# Altium schematic symbol library 贴片.SchLib: 35 symbols
Pins are listed as number, name and electrical type; pins without a type are passive.

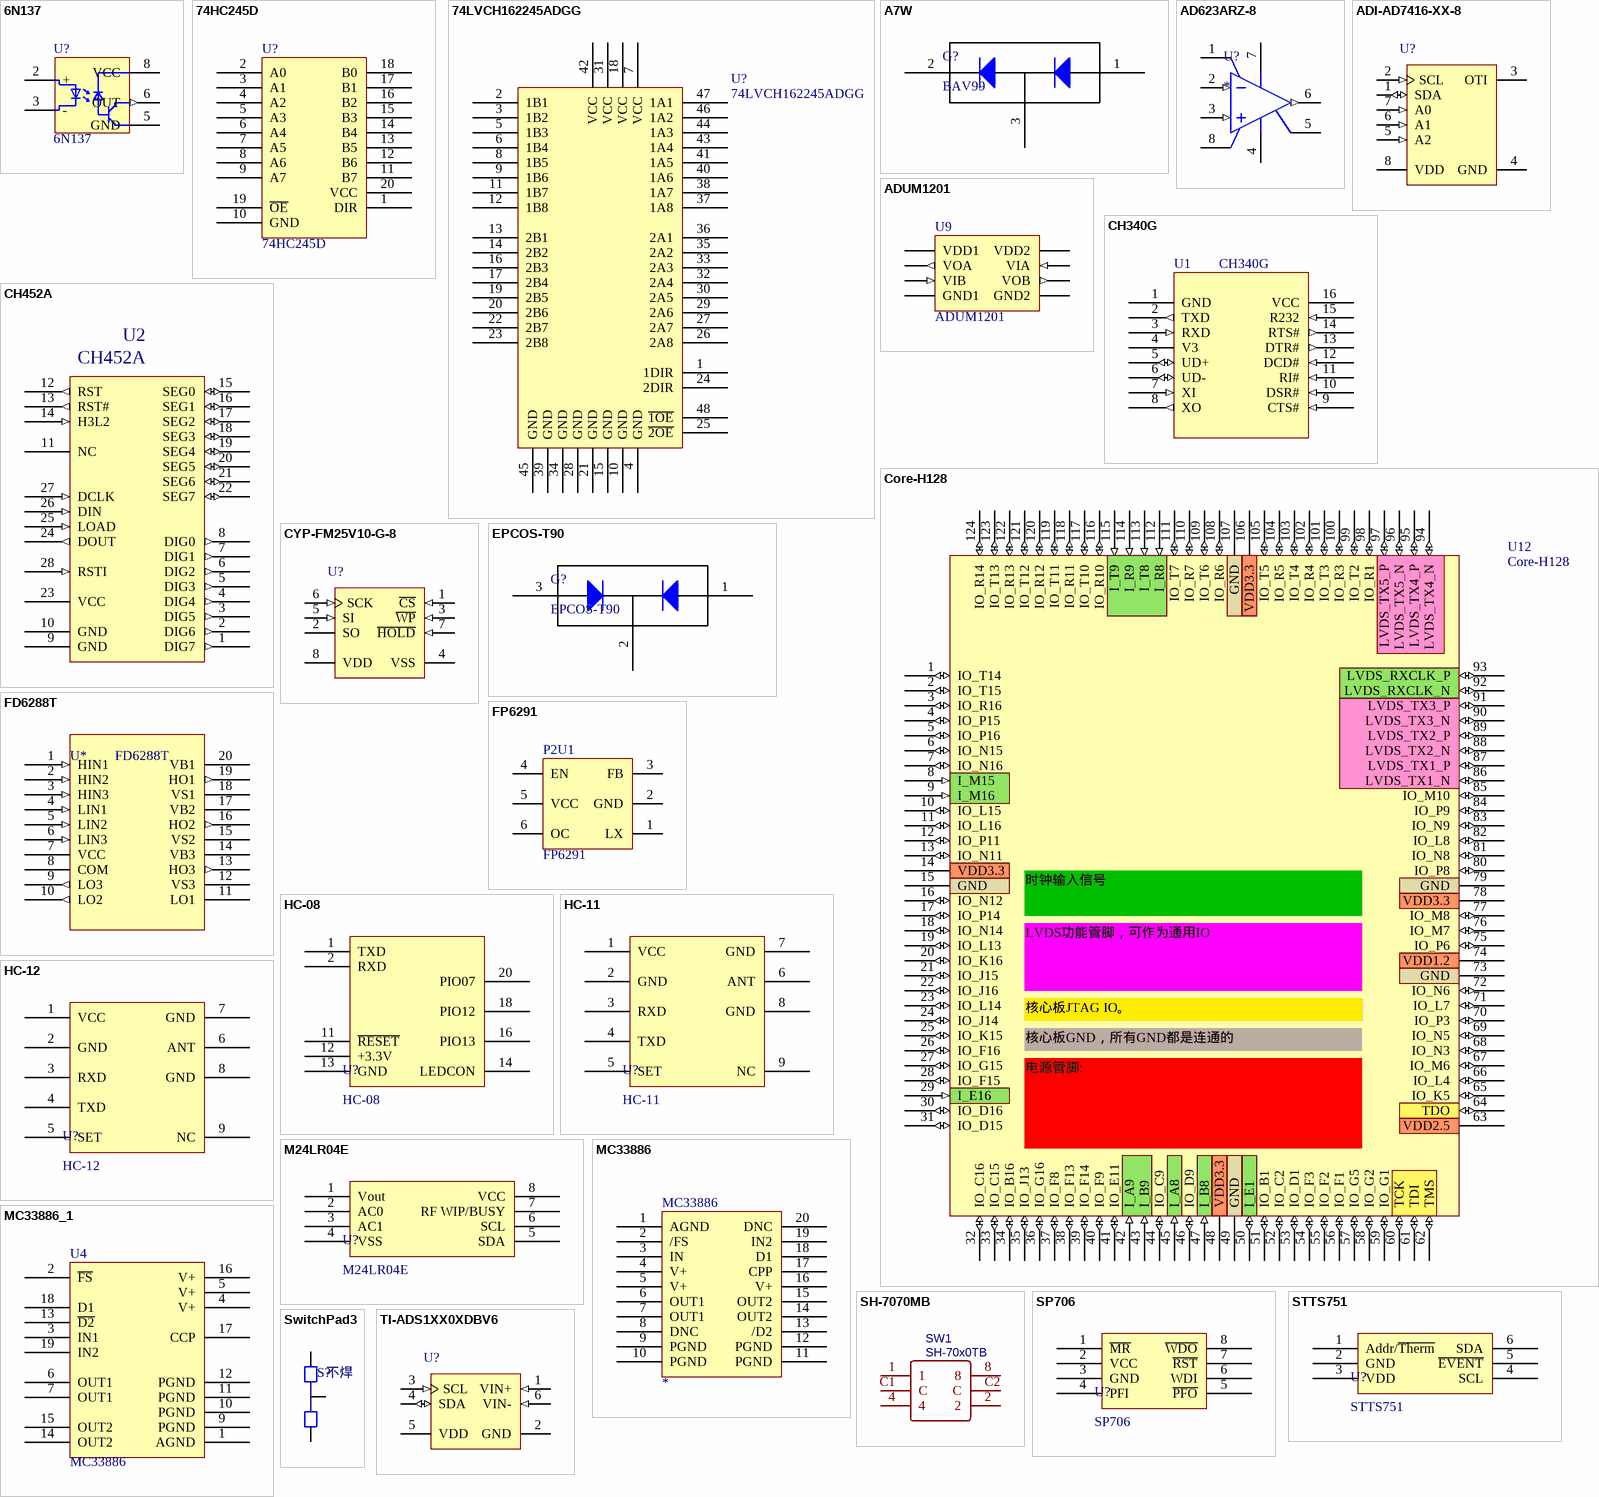
[diagram p0: symbols 6N137 to TI-ADS1XX0XDBV6]

## 6N137
designator U?
footprint DIP8
pins: 2 +, 3 -, 5 GND (power), 6 OUT (out), 8 VCC (power)
2 alternate drawings of the same symbol

## 74HC245D
designator U?
footprint SOP20
pins: 1 DIR, 2 A0, 3 A1, 4 A2, 5 A3, 6 A4, 7 A5, 8 A6, 9 A7, 10 GND, 11 B7, 12 B6, 13 B5, 14 B4, 15 B3, 16 B2, 17 B1, 18 B0, 19 ~{OE}, 20 VCC

## 74LVCH162245ADGG
designator U?
footprint TSSOP48
pins: 1 1DIR, 2 1B1, 3 1B2, 4 GND, 5 1B3, 6 1B4, 7 VCC, 8 1B5, 9 1B6, 10 GND, 11 1B7, 12 1B8, 13 2B1, 14 2B2, 15 GND, 16 2B3, 17 2B4, 18 VCC, 19 2B5, 20 2B6, 21 GND, 22 2B7, 23 2B8, 24 2DIR, 25 ~{2OE}, 26 2A8, 27 2A7, 28 GND, 29 2A6, 30 2A5, 31 VCC, 32 2A4, 33 2A3, 34 GND, 35 2A2, 36 2A1, 37 1A8, 38 1A7, 39 GND, 40 1A6, 41 1A5, 42 VCC, 43 1A4, 44 1A3, 45 GND, 46 1A2, 47 1A1, 48 ~{1OE}

## A7W
designator G?, comment BAV99
pins: 1, 2, 3

## AD623ARZ-8
designator U?
footprint AD623ARZ-8_M (SOIC, 8-Leads, Body 5x4mm, Pitch 1.27mm, IPC Low Density)
footprint AD623ARZ-8_L (SOIC, 8-Leads, Body 5x4mm, Pitch 1.27mm, IPC High Density)
footprint AD623ARZ-8_N (SOIC, 8-Leads, Body 5x4mm, Pitch 1.27mm, IPC Medium Density)
pins: 1 -RG, 2 -IN (in), 3 +IN (in), 4 -VS (power), 5 REF (power), 6 OUTPUT (out), 7 +VS (power), 8 +RG

## ADI-AD7416-XX-8
designator U?
footprint ADI-R-8_M (SOIC, 8-Leads, Body 4.9x3.9mm, Pitch 1.27mm, IPC Low Density)
pins: 1 SDA (io) "Digital I/O. Serial bus bidirectional data. Push-pull output.", 2 SCL (in) "Digital Input. Serial bus clock.", 3 OTI (oc) "This pin is a logic output. The OTI is set if the result of a conversion on Channel 0 (temperature sensor) is greater than an 8-bit word in the TOTI setpoint register. The signal is reset at the end of a serial read (See Datasheet)", 4 GND (power) "Ground reference for track-and-hold, comparator and capacitor DAC, and digital circuitry.", 5 A2 (in) "Digital Input. This is the highest programmable bit of the serial bus address.", 6 A1 (in) "Digital Input. This is the middle programmable bit of the serial bus address.", 7 A0 (in) "Digital Input. This is the lowest programmable bit of the serial bus address.", 8 VDD (power) "Positive Supply Voltage, 2.7 V to 5.5 V."

## ADUM1201
designator U9
电磁隔离芯片
footprint SOIC-8
pins: 1 VDD1, 2 VOA (out), 3 VIB (in), 4 GND1, 5 GND2, 6 VOB (out), 7 VIA (in), 8 VDD2

## CH340G
designator U1
USB to TTL Serial / UART
footprint SOP16
pins: 1 GND (power), 2 TXD (out), 3 RXD (in), 4 V3 (power), 5 UD+ (io), 6 UD- (io), 7 XI (in), 8 XO (out), 9 CTS# (in), 10 DSR# (in), 11 RI# (in), 12 DCD# (in), 13 DTR# (out), 14 RTS# (out), 15 R232 (in), 16 VCC (power)

## CH452A
designator U2
footprint SOP28_M (28-Leads, Body 18.1x7.6mm, Pitch 1.27mm, IPC Low Density)
footprint SOP28_L (28-Leads, Body 18.1x7.6mm, Pitch 1.27mm, IPC High Density)
footprint SOP28_N (28-Leads, Body 18.1x7.6mm, Pitch 1.27mm, IPC Medium Density)
pins: 1 DIG7 (out), 2 DIG6 (out), 3 DIG5 (out), 4 DIG4 (out), 5 DIG3 (out), 6 DIG2 (out), 7 DIG1 (out), 8 DIG0 (out), 9 GND (power), 10 GND (power), 11 NC, 12 RST (out), 13 RST# (out), 14 H3L2 (in), 15 SEG0 (io), 16 SEG1 (io), 17 SEG2 (io), 18 SEG3 (io), 19 SEG4 (io), 20 SEG5 (io), 21 SEG6 (io), 22 SEG7 (io), 23 VCC (power), 24 DOUT (out), 25 LOAD (in), 26 DIN (in), 27 DCLK (in), 28 RSTI (in)

## Core-H128
designator U12
footprint Core-124pin
pins: 1 IO_T14 (io), 2 IO_T15 (io), 3 IO_R16 (io), 4 IO_P15 (io), 5 IO_P16 (io), 6 IO_N15 (io), 7 IO_N16 (io), 8 I_M15 (in), 9 I_M16 (in), 10 IO_L15 (io), 11 IO_L16 (io), 12 IO_P11 (io), 13 IO_N11 (io), 14 VDD3.3 (power), 15 GND (power), 16 IO_N12 (io), 17 IO_P14 (io), 18 IO_N14 (io), 19 IO_L13 (io), 20 IO_K16 (io), 21 IO_J15 (io), 22 IO_J16 (io), 23 IO_L14 (io), 24 IO_J14 (io), 25 IO_K15 (io), 26 IO_F16 (io), 27 IO_G15 (io), 28 IO_F15 (io), 29 I_E16 (in), 30 IO_D16 (io), 31 IO_D15 (io), 32 IO_C16 (io), 33 IO_C15 (io), 34 IO_B16 (io), 35 IO_J13 (io), 36 IO_G16 (io), 37 IO_F8 (io), 38 IO_F13 (io), 39 IO_F14 (io), 40 IO_F9 (io), 41 IO_E11 (io), 42 I_A9 (in), 43 I_B9 (in), 44 IO_C9 (io), 45 I_A8 (in), 46 IO_D9 (io), 47 I_B8 (in), 48 VDD3.3 (power), 49 GND (power), 50 I_E1 (io), 51 IO_B1 (io), 52 IO_C2 (io), 53 IO_D1 (io), 54 IO_F3 (io), 55 IO_F2 (io), 56 IO_F1 (io), 57 IO_G5 (io), 58 IO_G2 (io), 59 IO_G1 (io), 60 TCK (io), 61 TDI (io), 62 TMS (io), 63 VDD2.5 (power), 64 TDO (io), 65 IO_K5 (io), 66 IO_L4 (io), 67 IO_M6 (io), 68 IO_N3 (io), 69 IO_N5 (io), 70 IO_P3 (io), 71 IO_L7 (io), 72 IO_N6 (io), 73 GND (power), 74 VDD1.2 (power), 75 IO_P6 (io), 76 IO_M7 (io), 77 IO_M8 (io), 78 VDD3.3 (power), 79 GND (power), 80 IO_P8 (io), 81 IO_N8 (io), 82 IO_L8 (io), 83 IO_N9 (io), 84 IO_P9 (io), 85 IO_M10 (io), 86 LVDS_TX1_N (io), 87 LVDS_TX1_P (io), 88 LVDS_TX2_N (io), 89 LVDS_TX2_P (io), 90 LVDS_TX3_N (io), 91 LVDS_TX3_P (io), 92 LVDS_RXCLK_N (io), 93 LVDS_RXCLK_P (io), 94 LVDS_TX4_N (io), 95 LVDS_TX4_P (io), 96 LVDS_TX5_N (io), 97 LVDS_TX5_P (io), 98 IO_R1 (io), 99 IO_T2 (io), 100 IO_R3 (io), 101 IO_T3 (io), 102 IO_R4 (io), 103 IO_T4 (io), 104 IO_R5 (io), 105 IO_T5 (io), 106 VDD3.3 (power), 107 GND (power), 108 IO_R6 (io), 109 IO_T6 (io), 110 IO_R7 (io), 111 IO_T7 (io), 112 I_R8 (in), 113 I_T8 (in), 114 I_R9 (in), 115 I_T9 (in), 116 IO_R10 (io), 117 IO_T10 (io), 118 IO_R11 (io), 119 IO_T11 (io), 120 IO_R12 (io), 121 IO_T12 (io), 122 IO_R13 (io), 123 IO_T13 (io), 124 IO_R14 (io)
text: 时钟输入信号; LVDS功能管脚，可作为通用IO; 核心板JTAG IO。; 核心板GND，所有GND都是连通的; 电源管脚:

## CYP-FM25V10-G-8
designator U?
pins: 1 ~{CS} (in) "Chip Select. This active LOW input activates the device. When HIGH, the device enters low-power standby mode, ignores other inputs, and the output is tristated. When LOW, the device internally activates the SCK signal. A (See Datasheet)", 2 SO (hiz) "Serial Output.This is the data output pin. It is driven during a read and remains tristated at all other times including when H\O\L\D\ is LOW. Data transitions are driven on the falling edge of the serial clock.", 3 ~{WP} (in) "Write Protect.This Active LOW pin prevents write operation to the Status Register when WPEN is set to ‘1’. This is critical because other write protection features are controlled through the Status Register.", 4 VSS (power) "Ground for the device. Must be connected to the ground of the system.", 5 SI (in) "Serial Input. All data is input to the device on this pin. The pin is sampled on the rising edge of SCK and is ignored at other times. It should always be driven to a valid logic level to meet IDD specifications", 6 SCK (in) "Serial Clock. All I/O activity is synchronized to the serial clock. Inputs are latched on the rising edge and outputs occur on the falling edge. Because the device is synchronous, the clock frequency may be any value between (See Datasheet)", 7 ~{HOLD} (in) "H\O\L\D\ Pin.The H\O\L\D\ pin is used when the host CPU must interrupt a memory operation for another task. When H\O\L\D\ is LOW, the current operation is suspended. The device ignores any transition on SCK or CS. All (See Datasheet)", 8 VDD (power) "Power supply input to the device."

## EPCOS-T90
designator G?
footprint EPCOS-T90
pins: 1, 2, 3

## FD6288T
designator U*
USB to TTL Serial / UART
footprint TSSOP20_M (TSOP, 20-Leads, Body 6.5x4.4mm, Pitch 0.65mm, IPC Low Density)
pins: 1 HIN1 (in), 2 HIN2 (in), 3 HIN3 (in), 4 LIN1 (in), 5 LIN2 (in), 6 LIN3 (in), 7 VCC (power), 8 COM, 9 LO3 (out), 10 LO2 (out), 11 LO1 (oc), 12 VS3, 13 HO3 (out), 14 VB3, 15 VS2, 16 HO2 (out), 17 VB2, 18 VS1, 19 HO1 (out), 20 VB1

## FP6291
designator P2U1
升压芯片
footprint SOT26A-6L (SOT23, 6-Leads, Body 2.9x1.7mm, Pitch 0.95mm, Lead Span 2.8mm, IPC High Density)
footprint SOT23-6 (SOT-23/SC-74A; 5 Leads; Body 3.1 x 3 mm, inc. leads (LxW max))
pins: 1 LX, 2 GND, 3 FB, 4 EN, 5 VCC, 6 OC

## HC-08
designator U?
汇承HC-08 蓝牙模块4.0BLE远距离51单片机通信串口无线传输模块
footprint HC-08V20/22/41
pins: 1 TXD, 2 RXD, 11 ~{RESET}, 12 +3.3V, 13 GND, 14 LEDCON, 16 PIO13, 18 PIO12, 20 PIO07

## HC-11
designator U?
无线模块433m近距离串口数据通信模块/低功耗发射接收带天线HC-11
footprint HC-11/12_SMT
pins: 1 VCC, 2 GND, 3 RXD, 4 TXD, 5 SET, 6 ANT, 7 GND, 8 GND, 9 NC

## HC-12
designator U?
汇承HC-12 433M无线收发模块 远距离数据串口通讯SI4463无线模块
footprint HC-11/12_SMT
pins: 1 VCC, 2 GND, 3 RXD, 4 TXD, 5 SET, 6 ANT, 7 GND, 8 GND, 9 NC

## M24LR04E
designator U?
footprint SO8_L (Footprint not found)
footprint SO8_M (Footprint not found)
footprint SO8_N (Footprint not found)
pins: 1 Vout, 2 AC0, 3 AC1, 4 VSS, 5 SDA, 6 SCL, 7 RF WIP/BUSY, 8 VCC

## MC33886
designator ?
footprint MC33886
pins: 1 AGND, 2 /FS, 3 IN, 4 V+, 5 V+, 6 OUT1, 7 OUT1, 8 DNC, 9 PGND, 10 PGND, 11 PGND, 12 PGND, 13 /D2, 14 OUT2, 15 OUT2, 16 V+, 17 CPP, 18 D1, 19 IN2, 20 DNC

## MC33886_1
designator U4, comment MC33886
footprint HSOP20
footprint MC33886
pins: 1 AGND, 2 ~{FS}, 3 IN1, 4 V+, 5 V+, 6 OUT1, 7 OUT1, 8 DNC hidden to DNC, 9 PGND, 10 PGND, 11 PGND, 12 PGND, 13 ~{D2}, 14 OUT2, 15 OUT2, 16 V+, 17 CCP, 18 D1, 19 IN2, 20 DNC hidden to DNC

## SH-7070MB
designator SW1, comment SH-70x0TB
BOM_Manufacturer: Nidec Copal Elec; BOM_Manufacturer Part: SH-7070MB; Contributor: LCSC; BOM_Supplier: LCSC; BOM_Supplier Part: C132914; spicePre: S
footprint SH-7070MB
footprint SH-7030MB
pins: 1, 2, 4, 8, C1 C, C2 C

## SP706
designator U?
footprint SO8_L (Footprint not found)
footprint SO8_M (Footprint not found)
footprint SO8_N (Footprint not found)
pins: 1 ~{MR}, 2 VCC, 3 GND, 4 PFI, 5 ~{PFO}, 6 WDI, 7 ~{RST}, 8 ~{WDO}

## STTS751
designator U?
footprint SOT23-6_L (Footprint not found)
footprint SOT23-6_M (Footprint not found)
footprint SOT23-6_N (Footprint not found)
pins: 1 Addr/~{Therm}, 2 GND, 3 VDD, 4 SCL, 5 ~{EVENT}, 6 SDA

## SwitchPad3
designator S?  value 不焊  (hidden comment: SwitchPad3)
Published: 8-Jun-2000; LatestRevisionDate: 17-Jul-2002; LatestRevisionNote: Re-released for DXP Platform.; Publisher: Altium Limited
footprint 0603
simulation model RESISTOR (Resistor)
signal-integrity model Res
footprint SwitchPad3 (模式选择贴片)
pins: 1, 2, 3

## TI-ADS1XX0XDBV6
designator U?
footprint TI-DBV6_L (SOT23, 6-Leads, Body 2.9x1.6mm, Pitch 0.95mm, IPC High Density)
footprint TI-DBV6_M (SOT23, 6-Leads, Body 2.9x1.6mm, Pitch 0.95mm, IPC Low Density)
footprint TI-DBV6_N (SOT23, 6-Leads, Body 2.9x1.6mm, Pitch 0.95mm, IPC Medium Density)
pins: 1 VIN+ (in), 2 GND (power), 3 SCL (in), 4 SDA (io), 5 VDD (power), 6 VIN- (in)

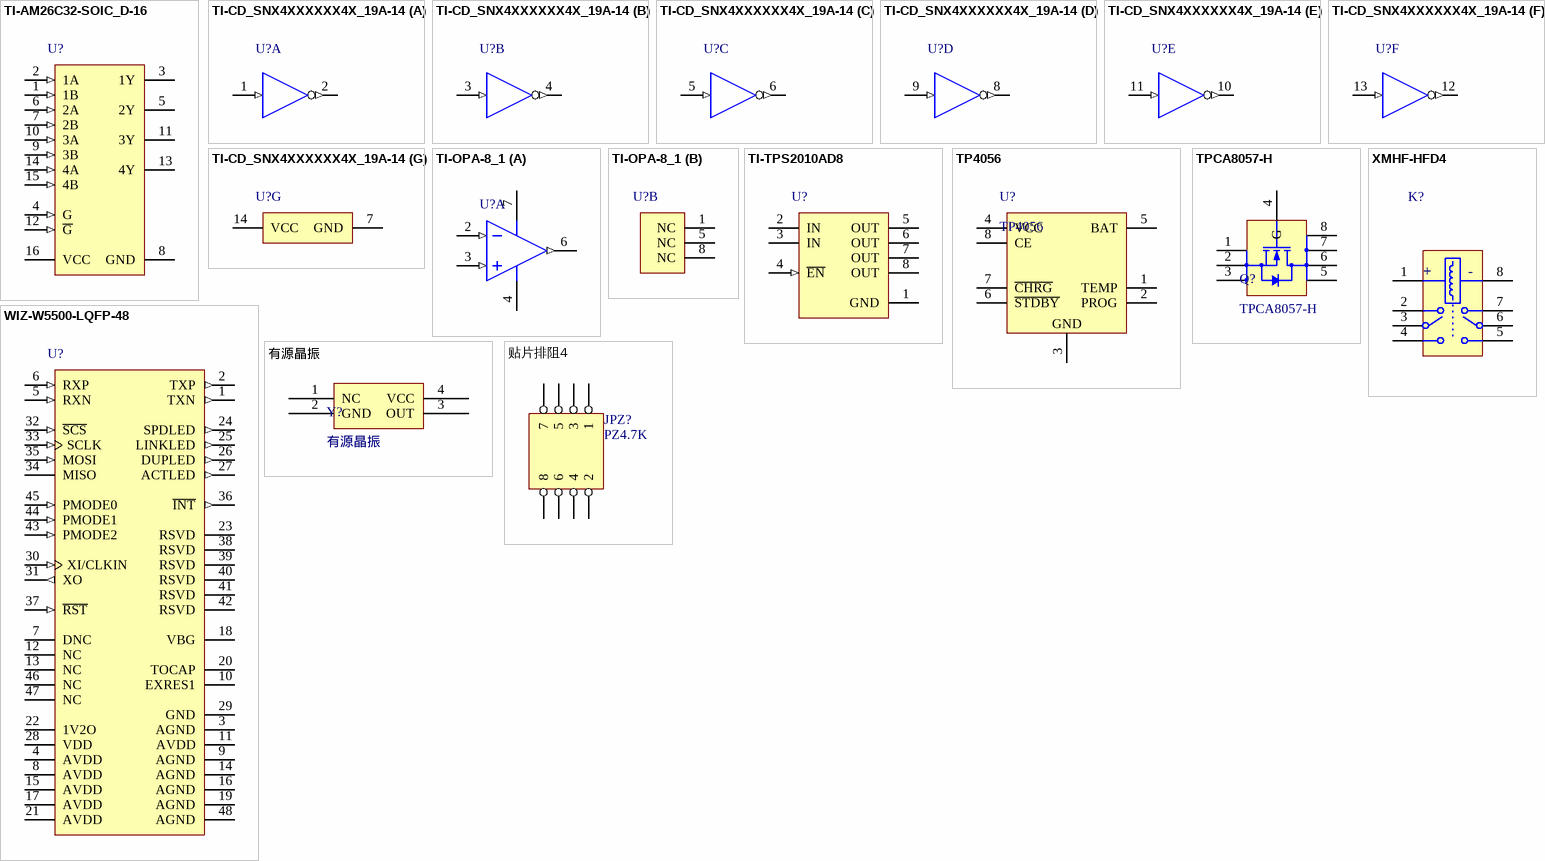
[diagram p1: symbols TI-AM26C32-SOIC_D-16 to 贴片排阻4]

## TI-AM26C32-SOIC_D-16
designator U?
footprint D16_M (SOIC, 16-Leads, Body 9.9x3.9mm, Pitch 1.27mm, IPC Low Density)
footprint D16_N (SOIC, 16-Leads, Body 9.9x3.9mm, Pitch 1.27mm, IPC Medium Density)
footprint D16_L (SOIC, 16-Leads, Body 9.9x3.9mm, Pitch 1.27mm, IPC High Density)
pins: 1 1B (in), 2 1A (in), 3 1Y (hiz), 4 G (in), 5 2Y (hiz), 6 2A (in), 7 2B (in), 8 GND (power), 9 3B (in), 10 3A (in), 11 3Y (hiz), 12 ~{G} (in), 13 4Y (hiz), 14 4A (in), 15 4B (in), 16 VCC (power)

## TI-CD_SNX4XXXXXX4X_19A-14
designator U?
footprint D0014A_M (SOIC, 14-Leads, Body 8.75x4mm, Pitch 1.27mm, IPC Low Density)
footprint D0008A_L (SOIC, 8-Leads, Body 5x4mm, Pitch 1.27mm, IPC High Density)
footprint D0008A_N (SOIC, 8-Leads, Body 5x4mm, Pitch 1.27mm, IPC Medium Density)
part A pins: 1 1A (in) "Input 1A", 2 ~{1Y} (out) "Output 1Y"
part B pins: 3 2A (in) "Input 2A", 4 ~{2Y} (out) "Output 2Y"
part C pins: 5 3A (in) "Input 3A", 6 ~{3Y} (out) "Output 3Y"
part D pins: 8 ~{4Y} (out) "Output 4Y", 9 4A (in) "Input 4A"
part E pins: 10 ~{5Y} (out) "Output 5Y", 11 5A (in) "Input 5A"
part F pins: 12 ~{6Y} (out) "Output 6Y", 13 6A (in) "Input 6A"
part G pins: 7 GND (power) "Ground Pin", 14 VCC (power) "Power Pin"

## TI-OPA-8_1
designator U?
footprint D0008A_L (SOIC, 8-Leads, Body 5x4mm, Pitch 1.27mm, IPC High Density)
footprint D0008A_M (SOIC, 8-Leads, Body 5x4mm, Pitch 1.27mm, IPC Low Density)
footprint D0008A_N (SOIC, 8-Leads, Body 5x4mm, Pitch 1.27mm, IPC Medium Density)
part A pins: 2 IN- (in), 3 IN+ (in), 4 V- (power), 6 OUT (out), 7 V+ (power)
part B pins: 1 NC, 5 NC, 8 NC

## TI-TPS2010AD8
designator U?
footprint D8_M (SOIC, 8-Leads, Body 4.9x3.9mm, Pitch 1.27mm, IPC Low Density)
pins: 1 GND (power) "Ground", 2 IN (power) "Input voltage", 3 IN (power) "Input voltage", 4 ~{EN} (in) "Enable input. Logic low turns on power switch.", 5 OUT (power) "Power-switch output", 6 OUT (power) "Power-switch output", 7 OUT (power) "Power-switch output", 8 OUT (power) "Power-switch output"

## TP4056
designator U?
锂电池充电管理
footprint NSO8_TP4056 (SOIC-max660)
pins: 1 TEMP, 2 PROG, 3 GND, 4 VCC, 5 BAT, 6 ~{STDBY}, 7 ~{CHRG}, 8 CE

## TPCA8057-H
designator Q?
MOSFETsSilicon N-Channel MOS (U-MOS��-H)
footprint TPCA8057-H (SOIC, 8-Leads, Body 5x5mm, Pitch 1.27mm, IPC Low Density)
pins: 1 S, 2 S, 3 S, 4 G, 5 D (power), 6 D (power), 7 D (power), 8 D (power)

## WIZ-W5500-LQFP-48
designator U?
footprint WIZ-W5500-LQFP-48_M (LQFP, 48-Leads, Body 7.00x7.00mm, Pitch 0.50mm, IPC Low Density)
footprint WIZ-W5500-LQFP-48_L (LQFP, 48-Leads, Body 7.00x7.00mm, Pitch 0.50mm, IPC High Density)
footprint WIZ-W5500-LQFP-48_N (LQFP, 48-Leads, Body 7.00x7.00mm, Pitch 0.50mm, IPC Medium Density)
pins: 1 TXN (out) "TXP/TXN Signal Pair", 2 TXP (out) "TXP/TXN Signal Pair", 3 AGND (power) "Analog ground", 4 AVDD (power) "Analog 3.3V power", 5 RXN (in) "RXP/RXN Signal Pair", 6 RXP (in) "RXP/RXN Signal Pair", 7 DNC "Do Not Connect Pin", 8 AVDD (power) "Analog 3.3V power", 9 AGND (power) "Analog ground", 10 EXRES1 "External Reference Resistor", 11 AVDD (power) "Analog 3.3V power", 12 NC "Not connected", 13 NC "Not connected", 14 AGND (power) "Analog ground", 15 AVDD (power) "Analog 3.3V power", 16 AGND (power) "Analog ground", 17 AVDD (power) "Analog 3.3V power", 18 VBG "Band Gap Output Voltage, This pin will be measured as 1.2V at 25 degC. It must be left floating.", 19 AGND (power) "Analog ground", 20 TOCAP "External Reference Capacitor, This pin must be connected to a 4.7uF capacitor. The trace length to capacitor should be short to stabilize the internal signals.", 21 AVDD (power) "Analog 3.3V power", 22 1V2O (power) "1.2V Regulator output voltage", 23 RSVD "It must be tied to GND.", 24 SPDLED (out) "Speed LED, This shows the Speed status of the connected link.", 25 LINKLED (out) "Link LED, This shows the Link status.", 26 DUPLED (out) "Duplex LED, This shows the Duplex status for the connected link.", 27 ACTLED (out) "Active LED, This shows that there is Carrier sense (CRS) from the active Physical Medium Sub-layer (PMD) during TX or RX activity.", 28 VDD (power) "Digital 3.3V Power", 29 GND (power) "Digital Ground", 30 XI/CLKIN (in) "Crystal input / External Clock input", 31 XO (out) "Crystal output, External 25MHz Crystal Output", 32 ~{SCS} (in) "Chip Select for SPI bus, This pin can be asserted low to select W5500 in SPI interface.", 33 SCLK (in) "SPI clock input, This pin is used to receive SPI Clock from SPI master.", 34 MISO (hiz) "SPI master input slave(W5500) output", 35 MOSI (in) "SPI master output slave(W5500) input", 36 ~{INT} (out) "Interrupt output", 37 ~{RST} (in) "Reset, RESET should be held low at least 500 us for W5500 reset.", 38 RSVD "Not connected", 39 RSVD "Not connected", 40 RSVD "Not connected", 41 RSVD "Not connected", 42 RSVD "Not connected", 43 PMODE2 (in) "PHY Operation mode select pin", 44 PMODE1 (in) "PHY Operation mode select pin", 45 PMODE0 (in) "PHY Operation mode select pin", 46 NC "Not connected", 47 NC "Not connected", 48 AGND (power) "Analog ground"

## XMHF-HFD4
designator K?
footprint XMHF-HFD4 (SMD, 8-Leads, Body 6.5x10mm, Height 5.65mm)
pins: 1, 2, 3, 4, 5, 6, 7, 8
text: +; -

## 有源晶振
designator Y?
footprint SYS
pins: 1 NC, 2 GND, 3 OUT, 4 VCC

## 贴片排阻4
designator JPZ?, comment PZ4.7K
footprint IDC8
footprint IDC-8
pins: 1, 2, 3, 4, 5, 6, 7, 8